# Altium footprint library pcbComponent.PCBLIB: 67 footprints (part 3 of 5)
Each footprint in its own frame and in the unit in brackets; x right, y up, seen from the top. Pads: shape width x height; smd on the part's side, far side on the other; paste and mask are expansions set on the pad; w line width, h text height; cw(c..) or ccw(c..) is an arc to the next point about the centre after c.
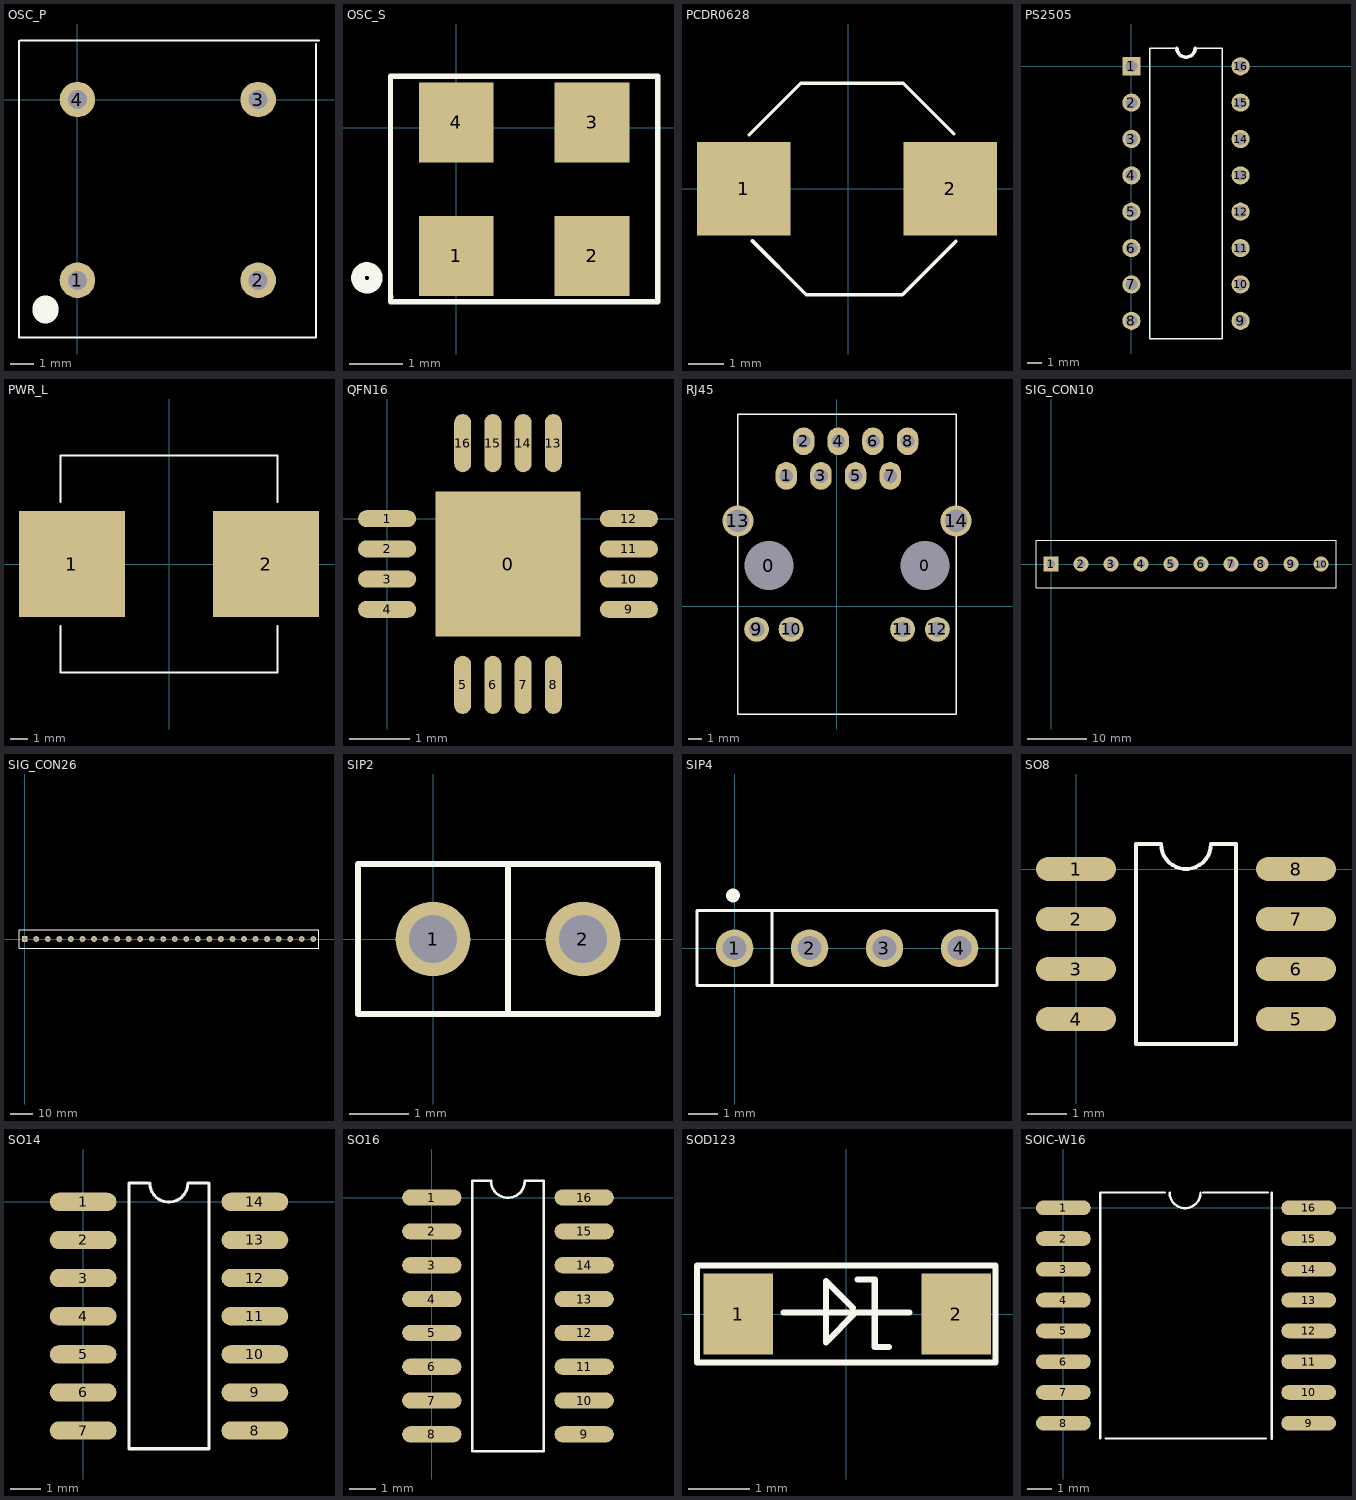
[diagram p2: the footprints below, top view; thin cyan lines are the x and y axes]

## OSC_P [mm]
pads (4):
  round 1.5 hole 0.8: 1(0,-7.62) 2(7.62,-7.62) 3(7.62,0) 4(0,0)
TopOverlay:
  lines w0.1: -2.464,2.464 -2.464,0.152 -2.464,-8.992 -2.464,-10.033 10.058,-10.033 10.058,-8.839 10.058,-0.025 10.058,2.337 ; -2.413,2.489 10.185,2.489
  lines w1.1: -1.346,-8.89 -1.346,-8.814

## OSC_S [mm]
pads (4):
  rect 1.4x1.5 smd: 1(0,-2.4) 2(2.54,-2.4) 3(2.54,0.1) 4(0,0.1)
TopOverlay:
  circle w0.254: c-1.672,-2.81 r0.167
  lines w0.1: -1.23,-3.26 -1.23,0.965 ; -1.23,-3.16 -1.225,-3.165 ; -1.225,0.965 3.775,0.965 ; -1.215,-3.255 3.775,-3.255 ; 3.765,-3.165 3.77,-3.16 ; 3.77,-3.26 3.77,0.965

## PCDR0628 [mm]
pads (2):
  rect 2.64x2.64 smd: 1(-2.95,-0.005) 2(2.87,-0.005)
TopOverlay:
  lines w0.1: -2.795,1.517 -1.347,2.965 ; -2.718,-1.466 -1.194,-2.99 1.524,-2.99 3.023,-1.492 ; -1.346,2.965 -1.17,2.965 1.548,2.965 2.971,1.543

## PS2505 [mil]
pads (16):
  rect 50x50 hole 32: 1(0,0)
  round 50 hole 32: 2(0,-100) 3(0,-200) 4(0,-300) 5(0,-400) 6(0,-500) 7(0,-600) 8(0,-700) 9(300,-700) 10(300,-600) 11(300,-500) 12(300,-400) 13(300,-300) 14(300,-200) 15(300,-100) 16(300,0)
TopOverlay:
  lines w3.94: 125,50 50,50 50,-750 250,-750 250,50 175,50
  lines w10: 125,50 ccw(c150,50) 175,50

## PWR_L [mm]
pads (2):
  rect 6x6 smd: 1(-5.5,0) 2(5.5,0)
TopOverlay:
  lines w0.102: -6.15,-3.5 -6.15,-6.15 6.15,-6.15 6.15,-3.5 ; -6.15,3.5 -6.15,6.15 6.15,6.15 6.15,3.5

## QFN16 [mil]
pads (17):
  rect 94.49x94.49 smd: 0(78.74,-29.53)
  oval 38x11 smd: 1(0,0) 2(0,-19.68) 3(0,-39.37) 4(0,-59.05) 9(157.48,-59.05) 10(157.48,-39.37) 11(157.48,-19.68) 12(157.48,0)
  oval 11x38 smd: 5(49.21,-108.27) 6(68.9,-108.27) 7(88.58,-108.27) 8(108.27,-108.27) 13(108.27,49.21) 14(88.58,49.21) 15(68.9,49.21) 16(49.21,49.21)

## RJ45 [mil]
pads (16):
  round 70.8 hole 141.73: 0(-196.26,117.52)
  round 60 hole 141.73: 0(254.53,117.52)
  oval 62x80 hole 40: 1(-145.87,376.57) 2(-95.87,476.57) 3(-45.87,376.57) 4(4.13,476.57) 5(54.13,376.57) 6(104.13,476.57) 7(154.13,376.57) 8(204.13,476.57)
  round 72 hole 44: 9(-231.5,-66.34) 10(-131.87,-66.34) 11(190,-66.34) 12(290.13,-66.34)
  round 90 hole 65: 13(-285.63,246.65) 14(344.29,246.65)
TopOverlay:
  lines w3.94: -285.87,555.31 -285.63,555.08 ; 344.13,555.31 344.29,555.16 ; -285.63,555.08 -285.55,555.16 344.29,555.16 ; -285.63,555.08 -285.63,246.65 -285.63,-310.59 -285.87,-310.83 344.13,-310.83 344.29,-310.67 344.29,246.65 344.29,555.16

## SIG_CON10 [mm]
pads (10):
  rect 2.56x2.56 hole 1.38: 1(0,0)
  round 2.56 hole 1.38: 2(5.08,0) 3(10.16,0) 4(15.24,0) 5(20.32,0) 6(25.4,0) 7(30.48,0) 8(35.56,0) 9(40.64,0) 10(45.72,0)
TopOverlay:
  lines w0.1: -2.54,-4 -2.54,4 48.26,4 48.26,-4 -2.54,-4

## SIG_CON26 [mm]
pads (26):
  rect 2.56x2.56 hole 1.38: 1(0,0)
  round 2.56 hole 1.38: 2(5.08,0) 3(10.16,0) 4(15.24,0) 5(20.32,0) 6(25.4,0) 7(30.48,0) 8(35.56,0) 9(40.64,0) 10(45.72,0) 11(50.8,0) 12(55.88,0) 13(60.96,0) 14(66.04,0) 15(71.12,0) 16(76.2,0) 17(81.28,0) 18(86.36,0) 19(91.44,0) 20(96.52,0) 21(101.6,0) 22(106.68,0) 23(111.76,0) 24(116.84,0) 25(121.92,0) 26(127,0)
TopOverlay:
  lines w0.1: -2.54,-4 129.54,-4 129.54,4 -2.54,4 -2.54,-4

## SIP2 [mil]
pads (2):
  round 50 hole 32: 1(0,0) 2(100,0)
TopOverlay:
  lines w4: 50,-50 50,50 ; -50,-50 -50,50 150,50 150,-50 -50,-50

## SIP4 [mil]
pads (4):
  round 50 hole 32: 1(0,0) 2(100,0) 3(200,0) 4(300,0)
TopOverlay:
  circle w10: c-2.01,70.28 r4.17
  lines w4: 50,-50 50,50 ; -50,-50 350,-50 350,50 -50,50 -50,-50

## SO8 [mil]
pads (8):
  oval 80x24 smd: 1(0,0) 2(0,-50) 3(0,-100) 4(0,-150) 5(220,-150) 6(220,-100) 7(220,-50) 8(220,0)
TopOverlay:
  lines w3.94: 85,25 ccw(c110,25) 135,25
  lines w4.32: 85,25 60,25 60,-175 160,-175 160,25 135,25

## SO14 [mil]
pads (14):
  oval 87.64x24 smd: 1(0,0) 2(0,-50) 3(0,-100) 4(0,-150) 5(0,-200) 6(0,-250) 7(0,-300) 8(225.2,-300) 9(225.2,-250) 10(225.2,-200) 11(225.2,-150) 12(225.2,-100) 13(225.2,-50) 14(225.2,0)
TopOverlay:
  lines w3.94: 60,-323.82 60,25 85,25 ; 87.4,24.61 ccw(c112.4,24.61) 137.4,24.61 ; 137.99,25 162.99,25 ; 165.2,-323.82 165.2,25
  lines w4: 60,-323.82 164.61,-323.82

## SO16 [mil]
pads (16):
  oval 87.64x24 smd: 1(0,0) 2(0,-50) 3(0,-100) 4(0,-150) 5(0,-200) 6(0,-250) 7(0,-300) 8(0,-350) 9(225.2,-350) 10(225.2,-300) 11(225.2,-250) 12(225.2,-200) 13(225.2,-150) 14(225.2,-100) 15(225.2,-50) 16(225.2,0)
TopOverlay:
  lines w3.94: 60,-375 60,25 85,25 ; 63.19,-375.2 163.19,-375.2 ; 87.4,24.61 ccw(c112.4,24.61) 137.4,24.61 ; 137.99,25 162.99,25 ; 165.2,-375 165.2,25

## SOD123 [mm]
pads (2):
  rect 1.12x1.32 smd: 1(-1.753,0) 2(1.778,0)
TopOverlay:
  lines w0.1: -1.016,0.025 0.66,0.025 ; 0.102,0.102 -0.33,0.533 -0.33,-0.457 0.152,0.025 ; 0.178,0.559 0.457,0.559 0.457,-0.533 0.686,-0.533 ; 0.457,0.025 1.016,0.025 ; -2.422,-0.787 -2.422,0.787 2.413,0.787 2.413,-0.787 -2.422,-0.787

## SOIC-W16 [mil]
pads (16):
  oval 89.06x24 smd: 1(0,0) 2(0,-50) 3(0,-100) 4(0,-150) 5(0,-200) 6(0,-250) 7(0,-300) 8(0,-350) 9(398.62,-350) 10(398.62,-300) 11(398.62,-250) 12(398.62,-200) 13(398.62,-150) 14(398.62,-100) 15(398.62,-50) 16(398.62,0)
TopOverlay:
  lines w3.94: 60,-375 60,25 165,25 ; 69.09,-375 329.09,-375 ; 172.83,24.41 ccw(c197.83,24.41) 222.83,24.41 ; 226.97,25 331.97,25 ; 338.62,-375.2 338.62,24.8